# EAGLE library part TE4/8 (library busbar)
BUS BAR 8 connections, grid 4 TE
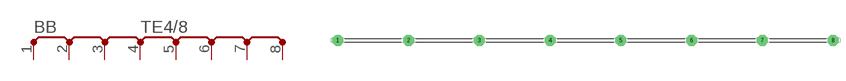
[diagram p5: symbol with the pads of TE4/8; footprint TE4/8]

Designator prefix BB

## TE4/8  [TE4/8]
1  P  pas
2  P  pas
3  P  pas
4  P  pas
5  P  pas
6  P  pas
7  P  pas
8  P  pas

## Footprint TE4/8 (pad centres in mm)
BUS BAR 8 connections, grid 4 TE
drill 1.6 pad 3.15 octagon: 1 -71.12,0; 2 -50.8,0; 3 -30.48,0; 4 -10.16,0; 5 10.16,0; 6 30.48,0; 7 50.8,0; 8 71.12,0